# Altium schematic symbol library Schlib1.SchLib: 4 symbols
Pins are listed as number, name and electrical type; pins without a type are passive.

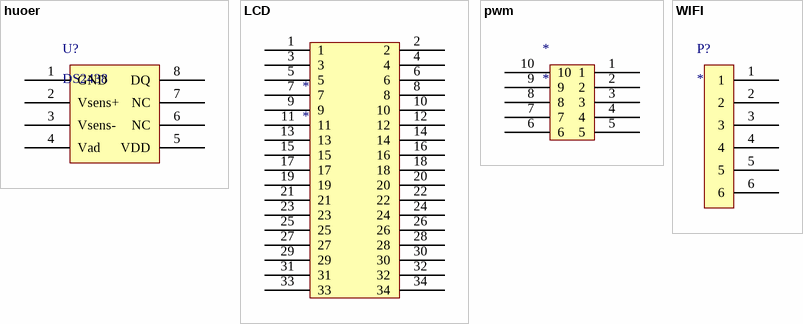
[diagram p0: symbols huoer to WIFI]

## huoer
designator U?, comment DS2438
pins: 1 GND, 2 Vsens+, 3 Vsens-, 4 Vad, 5 VDD, 6 NC, 7 NC, 8 DQ

## LCD
designator *
pins: 1, 2, 3, 4, 5, 6, 7, 8, 9, 10, 11, 12, 13, 14, 15, 16, 17, 18, 19, 20, 21, 22, 23, 24, 25, 26, 27, 28, 29, 30, 31, 32, 33, 34

## pwm
designator *
pins: 1, 2, 3, 4, 5, 6, 7, 8, 9, 10

## WIFI
designator P?
pins: 1, 2, 3, 4, 5, 6